# EAGLE library part NUD3160DMT1G (library FSAE Electric (Alexander Ray's conflicted copy 2016-04-02))
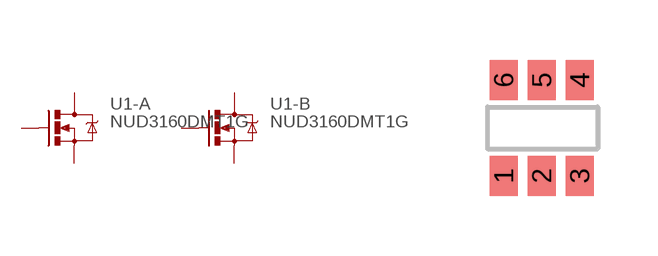
[diagram p78: symbol with the pads of SC74-6; footprint SC74-6]

Designator prefix U1; gates -A=MOSFET-N -B=MOSFET-N

## NUD3160DMT1G (PARTNO: NUD3160DMT1G)  [SC74-6]
1  -A:S  pas
2  -A:G  pas
3  -B:D  pas
4  -B:S  pas
5  -B:G  pas
6  -A:D  pas

## Footprint SC74-6 (pad centres in mm)
smd 0.7 x 1: 1 -0.95,-1.2; 2 0,-1.2; 3 0.95,-1.2; 4 0.95,1.2; 5 0,1.2; 6 -0.95,1.2